# Altium footprint library B06B-JWPF-SK-R.PcbLib: 1 footprints
Each footprint in its own frame and in the unit in brackets; x right, y up, seen from the top. Pads: shape width x height; smd on the part's side, far side on the other; paste and mask are expansions set on the pad; w line width, h text height; cw(c..) or ccw(c..) is an arc to the next point about the centre after c.
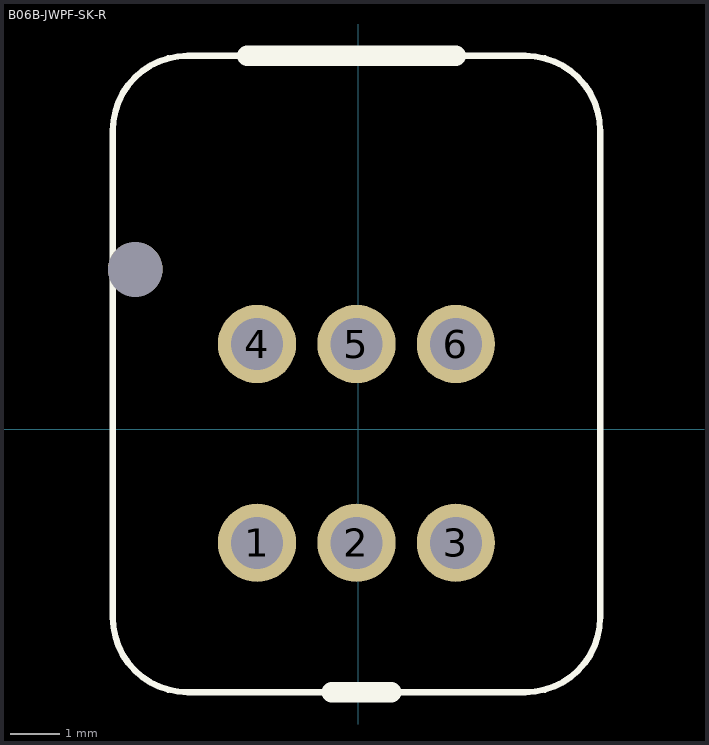
[diagram p0: the footprint, top view; thin cyan lines are the x and y axes]

## B06B-JWPF-SK-R [mm]
pads (7):
  round 1.575 hole 1.05: 1(-2.032,-2.286) 2(-0.032,-2.286) 3(1.968,-2.286) 4(-2.032,1.714) 5(-0.032,1.714) 6(1.968,1.714)
  round 1.1 hole 1.1 unplated: ""(-4.482,3.214)
Top Overlay:
  lines w0.127: -2.232,7.511 -3.432,7.511 ccw(c-3.432,6.011) -4.932,6.011 -4.932,-3.789 ccw(c-3.432,-3.789) -3.432,-5.289 -0.532,-5.289 ; 0.668,-5.289 3.368,-5.289 ccw(c3.368,-3.789) 4.868,-3.789 4.868,6.011 ccw(c3.368,6.011) 3.368,7.511 1.968,7.511
  lines w0.406: -2.232,7.511 1.968,7.511 ; -0.532,-5.289 0.668,-5.289
3D body "Conn_JST_B06B-JWPF-SK-R_LF_SN_eec.STEP": height 16.6, standoff -3.3, extent -4.939,-5.265 4.862,7.535